# Altium footprint library eyes_hvac_v1_pcb.PcbLib: 21 footprints (part 2 of 2)
Each footprint in its own frame and in the unit in brackets; x right, y up, seen from the top. Pads: shape width x height; smd on the part's side, far side on the other; paste and mask are expansions set on the pad; w line width, h text height; cw(c..) or ccw(c..) is an arc to the next point about the centre after c.
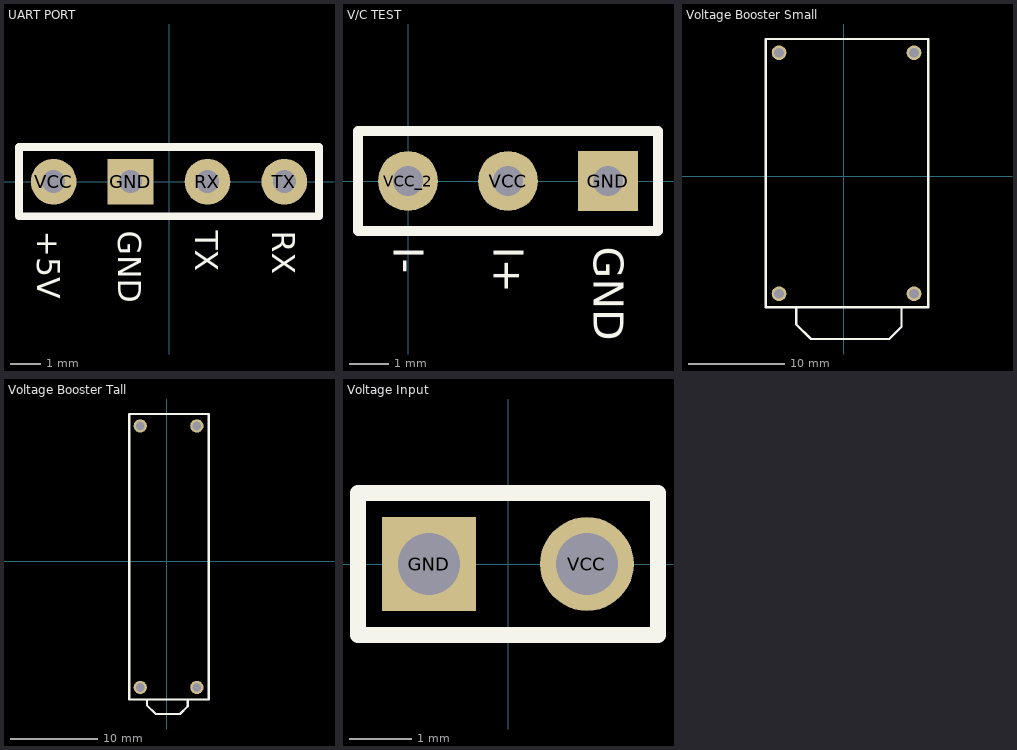
[diagram p1: the footprints below, top view; thin cyan lines are the x and y axes]

## UART PORT [mil]
pads (4):
  rect 59.37x59.37 hole 30: GND(-50,0)
  round 59.37 hole 30: RX(50,0) TX(150,0) VCC(-150,0)
Top Overlay:
  lines w10: -195,-45 -195,45 195,45 195,-45 -195,-45
  text "+5V" at -171,-63.99 h30
  text "TX" at 33.99,-63.99 h30
  text "RX" at 133.99,-63.99 h30
  text "GND" at -66,-63.99 h30
3D body "4 pin 1 Row 2.54mm Male Pin Header.stp": height 330, standoff -115, extent -200,-50 200,48

## V/C TEST [mil]
pads (3):
  rect 60x60 hole 30: GND(200,0)
  round 60 hole 30: VCC(100,0) VCC_2(0,0)
Top Overlay:
  lines w10: -50,-50 250,-50 250,50 -50,50 -50,-50
  text "I-" at -14,-66 h30
  text "I+" at 86,-66 h30
  text "GND" at 186,-66 h30

## Voltage Booster Small [mil]
pads (4):
  round 60 hole 39.37: VIN+(-265,-480) VIN-(286.18,-480) VOUT+(-265,504.25) VOUT-(286.18,504.25)
Top Overlay:
  lines w10: -195,-535 -195,-605 -135,-665 185,-665 235,-615 235,-535 ; -320,-535 -320,560 345,560 345,-535 -320,-535

## Voltage Booster Tall [mil]
pads (4):
  round 60 hole 39.37: VIN+(135.91,-570) VIN-(-120,-570) VOUT+(135.91,611.1) VOUT-(-120,611.1)
Top Overlay:
  lines w10: -90,-625 -90,-650 -50,-690 60,-690 95,-655 95,-625 ; -170,-625 190,-625 190,665 -170,665 -170,-625

## Voltage Input [mm]
pads (2):
  rect 1.508x1.508 hole 1: GND(-1.27,0)
  round 1.508 hole 1: VCC(1.27,0)
Top Overlay:
  lines w0.254: -2.413,-1.143 -2.413,1.143 2.413,1.143 2.413,-1.143 -2.413,-1.143
3D body "2 pin 1 Row 2.54mm Male Pin Header.stp": height 9.02, standoff -2.29, extent -2.54,-1.27 2.54,1.27